# Altium footprint library HV_Board_PCB_Lib.PcbLib: 5 footprints
Each footprint in its own frame and in the unit in brackets; x right, y up, seen from the top. Pads: shape width x height; smd on the part's side, far side on the other; paste and mask are expansions set on the pad; w line width, h text height; cw(c..) or ccw(c..) is an arc to the next point about the centre after c.
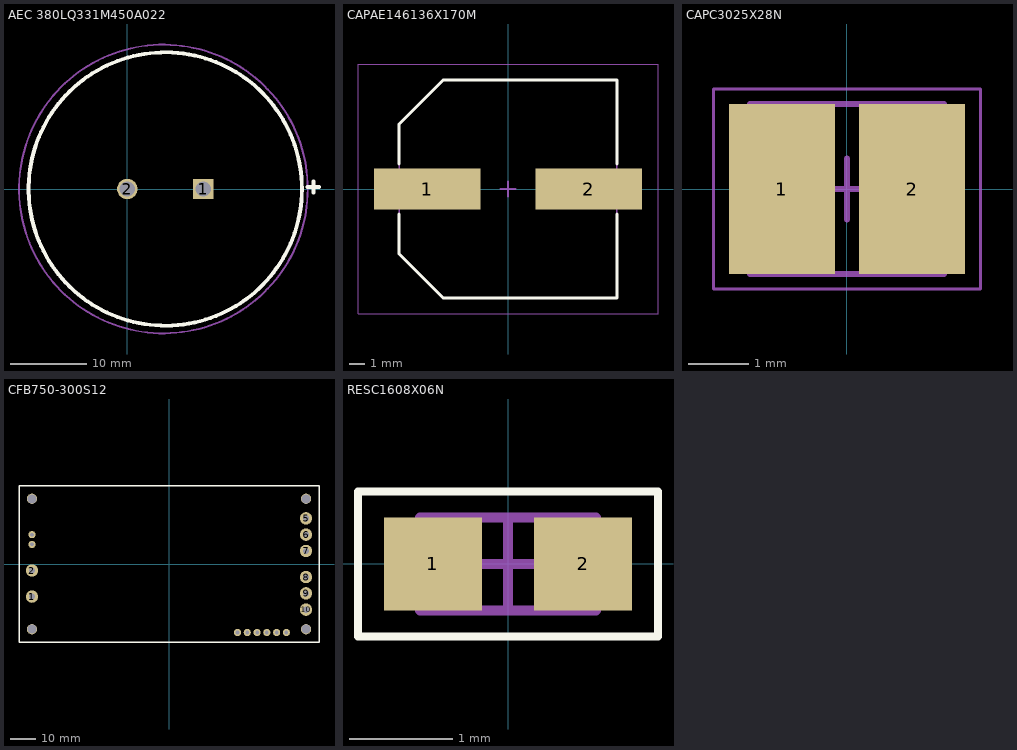
[diagram p0: the footprints below, top view; thin cyan lines are the x and y axes]

## AEC 380LQ331M450A022 [mm]
pads (2):
  rect 2.7x2.7 hole 2: 1(10,0)
  round 2.7 hole 2: 2(0,0)
Top Overlay:
  circle w0.5: c5,0 r18
  lines w0.5: 23.75,0.25 25.25,0.25 ; 24.508,-0.5 24.508,1
Bottom Overlay:
  lines w0.5: 12,0 13.5,0 ; 12.75,-0.75 12.75,0.75
Mechanical 15:
  circle w0.254: c4.75,0 r19.015
3D body: height 30, standoff 0, extent -12.5,-17.5 22.5,17.5

## CAPAE146136X170M [mm] "Aluminum Electrolytic Capacitor, Body 13.60x13.60x17.00mm, IPC Low Density"
height 17
pads (2):
  rect 6.75x2.6 smd: 1(-5.125,0) 2(5.125,0)
Top Overlay:
  lines w0.2: -6.9,-1.6 -6.9,-4.1 -4.1,-6.9 6.9,-6.9 6.9,-1.6 ; -6.9,1.6 -6.9,4.1 -4.1,6.9 6.9,6.9 6.9,1.6
Mechanical 13:
  lines w0.1: -6.9,-4.1 -6.9,4.1 -4.1,6.9 6.9,6.9 6.9,-6.9 -4.1,-6.9 -6.9,-4.1
Mechanical 15:
  lines w0.05: -9.5,-7.9 9.5,-7.9 9.5,7.9 -9.5,7.9 -9.5,-7.9
  lines w0.1: -0.5,0 0.5,0 ; 0,-0.5 0,0.5
3D body: height 17, standoff 0, extent -6.5,-6.5 6.5,6.5
3D body: height 5.67, standoff 0, extent -6.9,-6.9 6.9,6.9

## CAPC3025X28N [mm] "Chip Capacitor, 2-Leads, Body 3.00x2.50mm, IPC Medium Density"
height 2.8
pads (2):
  rect 1.75x2.8 smd: 1(-1.075,0) 2(1.075,0)
Mechanical 13:
  lines w0.1: -1.6,-1.4 -1.6,1.4 1.6,1.4 1.6,-1.4 -1.6,-1.4
Mechanical 15:
  lines w0.05: -2.2,-1.65 -2.2,1.65 2.2,1.65 2.2,-1.65 -2.2,-1.65
  lines w0.1: -0.5,0 0.5,0 ; 0,-0.5 0,0.5
3D body: height 2.8, standoff 0, extent -0.55,-1.4 0.55,1.4
3D body: height 2.8, standoff 0, extent -1.6,-1.4 -0.55,1.4
3D body: height 2.8, standoff 0, extent 0.55,-1.4 1.6,1.4

## CFB750-300S12 [mm] "Cincon CFB750-300S12 DC-DC Converter"
pads (20):
  round 4.8 hole 2.4: 1(-53.35,-12.7) 2(-53.35,-2.54) 5(53.35,17.78) 6(53.35,11.43) 7(53.35,5.08) 8(53.35,-5.08) 9(53.35,-11.43) 10(53.35,-17.78)
  round 2.8 hole 1.4: 3(-53.35,7.62) 4(-53.35,11.43) 11(45.71,-26.67) 12(41.9,-26.67) 13(38.09,-26.67) 14(34.28,-26.67) 15(30.47,-26.67) 16(26.66,-26.67)
  round 4 hole 3.5: C_HV(-53.35,-25.4) C_HV(-53.35,25.4) C_LV_+12(53.35,25.4) C_LV_GND(53.35,-25.4)
Top Overlay:
  lines w0.5: -58.4,-30.5 -58.4,30.5 58.4,30.5 58.4,-30.5 -58.4,-30.5
3D body "CFB750-300.STEP": height 12.7, standoff -5.5, extent -58.4,-30.5 58.4,30.5

## RESC1608X06N [mm] "Chip Resistor, 2-Leads, Body 1.60x0.80mm, IPC Medium Density"
height 0.55
pads (2):
  rect 0.95x0.9 smd: 1(-0.725,0) 2(0.725,0)
Top Overlay:
  lines w0.08: -1.45,-0.7 1.45,-0.7 1.45,0.7 -1.45,0.7 -1.45,-0.7
Mechanical 13:
  lines w0.1: -0.85,-0.45 -0.85,0.45 0.85,0.45 0.85,-0.45 -0.85,-0.45
Mechanical 15:
  lines w0.05: -1.45,-0.7 -1.45,0.7 1.45,0.7 1.45,-0.7 -1.45,-0.7
  lines w0.1: -0.45,0 0.45,0 ; 0,-0.45 0,0.45
3D body: height 0.55, standoff 0, extent -0.55,-0.45 0.55,0.45
3D body: height 0.55, standoff 0, extent -0.85,-0.45 -0.55,0.45
3D body: height 0.55, standoff 0, extent 0.55,-0.45 0.85,0.45